# EAGLE library part CYPD3177-24LQXQT (library CYPD3177-24LQXQT)
USB Type-C DFP Port Controller USB 1.1 3.3V/5V T/R 24-Pin QFN EP Source: Datasheet <https://www.cypress.com/file/460416/download>
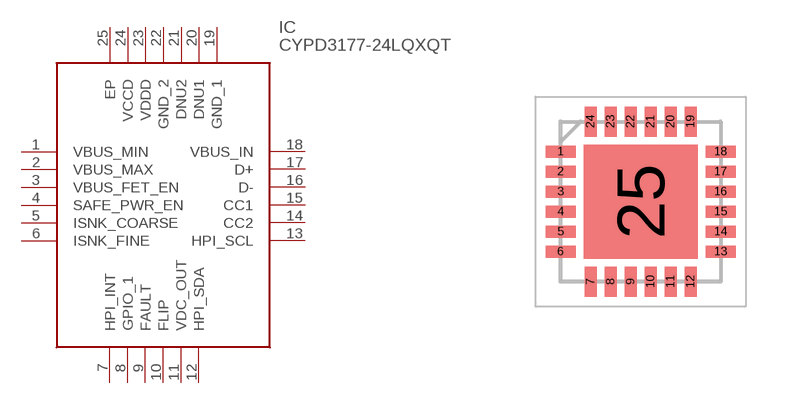
[diagram p0: symbol with the pads of QFN50P400X400X60-25N; footprint QFN50P400X400X60-25N]

Designator prefix IC

## CYPD3177-24LQXQT (Description: USB Type-C DFP Port Controller USB 1.1 3.3V/5V T/R 24-Pin QFN EP; Height: 0.6mm; Manufacturer_Name: Cypress Semiconductor; Manufacturer_Part_Number: CYPD3177-24LQXQT; Mouser_Part_Number: 727-CYPD3177-24LQXQT; Mouser_Price-Stock: https://www.mouser.co.uk/ProductDetail/Cypress-Semiconductor/CYPD3177-24LQXQT?qs=PzGy0jfpSMvUfBLYWBYBLA%3D%3D)  [QFN50P400X400X60-25N]
1  VBUS_MIN
2  VBUS_MAX
3  VBUS_FET_EN
4  SAFE_PWR_EN
5  ISNK_COARSE
6  ISNK_FINE
7  HPI_INT
8  GPIO_1
9  FAULT
10  FLIP
11  VDC_OUT
12  HPI_SDA
13  HPI_SCL
14  CC2
15  CC1
16  D-
17  D+
18  VBUS_IN
19  GND_1
20  DNU1
21  DNU2
22  GND_2
23  VDDD
24  VCCD
25  EP

## Footprint QFN50P400X400X60-25N (pad centres in mm)
qfn-24
smd 0.75 x 0.3: 1 -2,1.25; 2 -2,0.75; 3 -2,0.25; 4 -2,-0.25; 5 -2,-0.75; 6 -2,-1.25; 13 2,-1.25; 14 2,-0.75; 15 2,-0.25; 16 2,0.25; 17 2,0.75; 18 2,1.25
smd 0.3 x 0.75: 7 -1.25,-2; 8 -0.75,-2; 9 -0.25,-2; 10 0.25,-2; 11 0.75,-2; 12 1.25,-2; 19 1.25,2; 20 0.75,2; 21 0.25,2; 22 -0.25,2; 23 -0.75,2; 24 -1.25,2
smd 2.85 x 2.85: 25 0,0